# Altium footprint library Components.PcbLib: 154 footprints (part 4 of 10)
Each footprint in its own frame and in the unit in brackets; x right, y up, seen from the top. Pads: shape width x height; smd on the part's side, far side on the other; paste and mask are expansions set on the pad; w line width, h text height; cw(c..) or ccw(c..) is an arc to the next point about the centre after c.
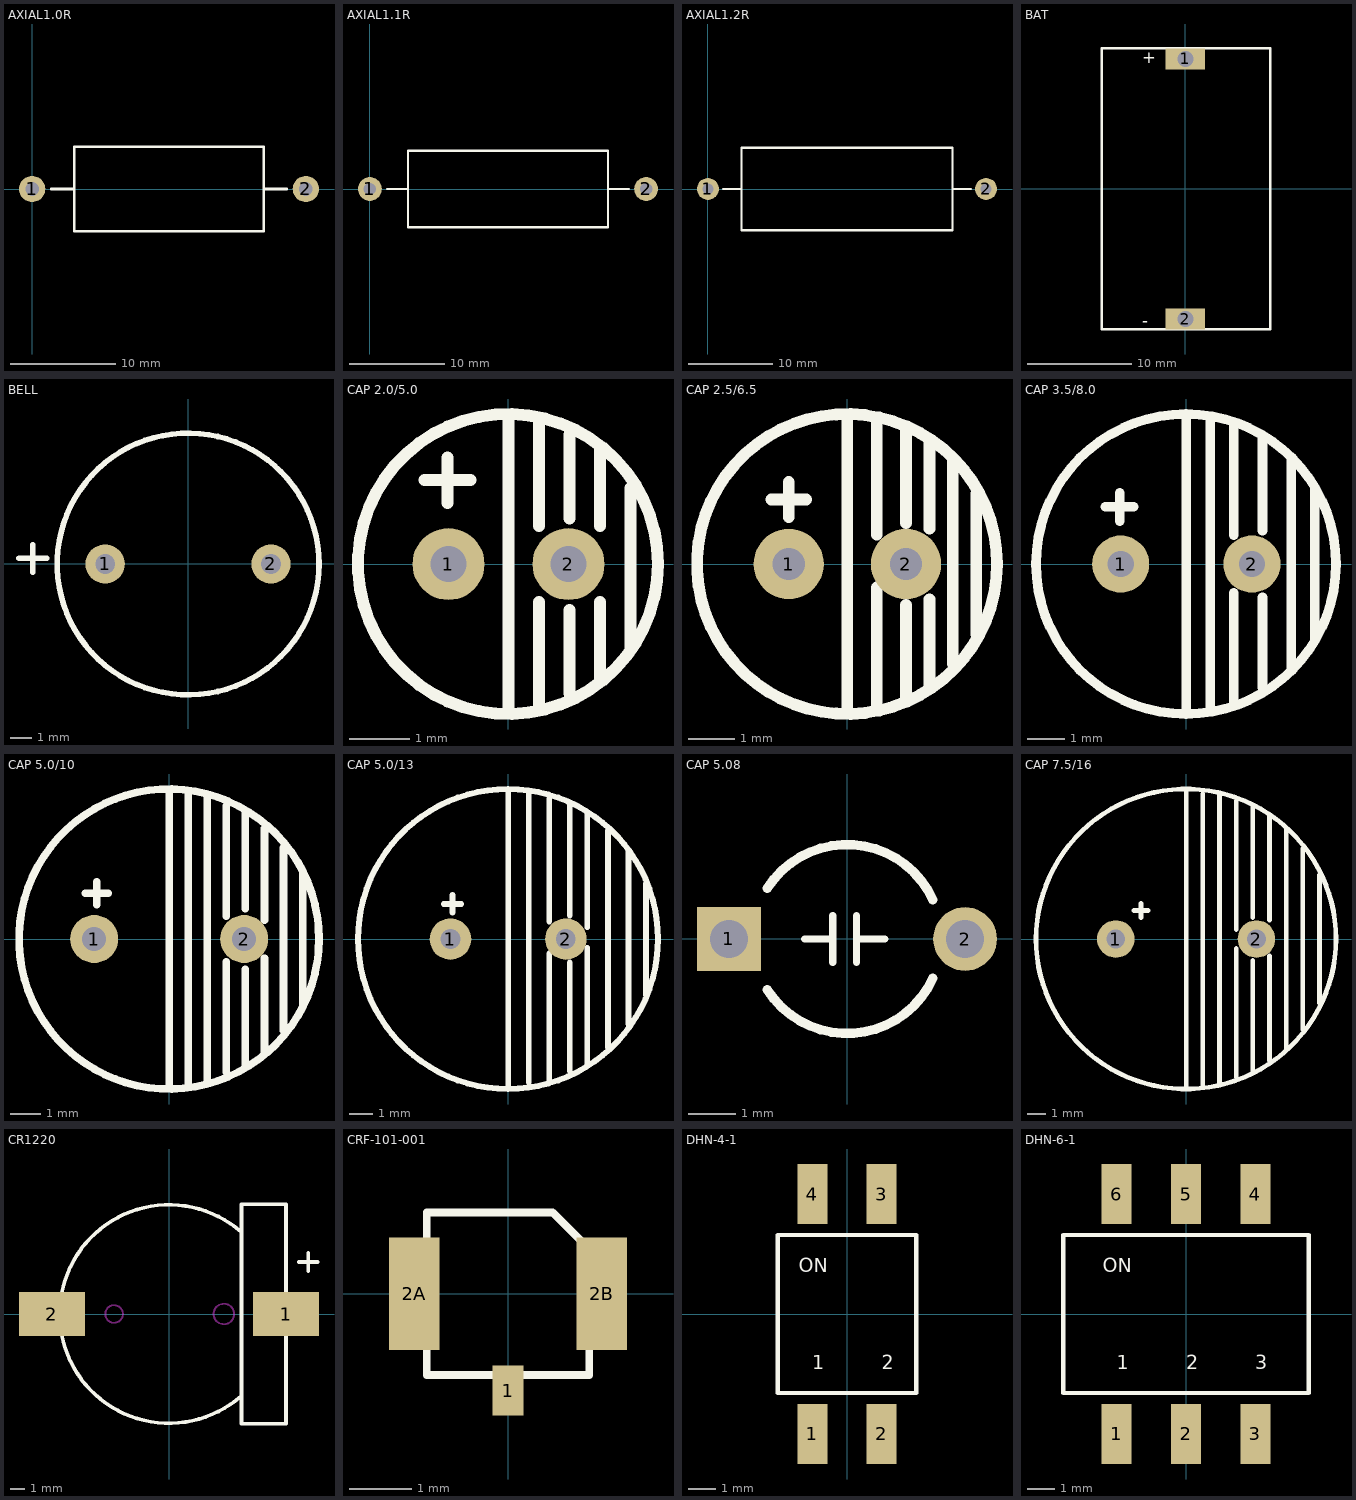
[diagram p3: the footprints below, top view; thin cyan lines are the x and y axes]

## AXIAL1.0R [mm] "3W"
pads (2):
  round 2.5 hole 1.3: 1(0,0.003) 2(26,0.003)
Top Overlay:
  lines w0.254: 1.8,0 4,0 ; 22,0 24.2,0 ; 4,-4 22,-4 22,4 4,4 4,-4

## AXIAL1.1R [mm]
pads (2):
  round 2.5 hole 1.3: 1(0,0.003) 2(29,0.003)
Top Overlay:
  lines w0.254: 1.8,0 4,0 ; 25,0 27.2,0 ; 4,-4 25,-4 25,4 4,4 4,-4

## AXIAL1.2R [mm] "5W"
pads (2):
  round 2.6 hole 1.3: 1(0,0.003) 2(33,0.003)
Top Overlay:
  lines w0.254: 1.8,0 4,0 ; 29,0 31.2,0 ; 4,-4.9 29,-4.9 29,4.9 4,4.9 4,-4.9

## BAT [mm]
pads (2):
  rect 3.81x2 hole 1.524: 1(-0.002,12.426) 2(-0.002,-12.52)
Top Overlay:
  lines w0.254: -8.003,-13.482 -8.003,13.442 8.126,13.442 8.126,-13.482 -8.003,-13.482
  text "+" at -4.128,12.02 h1.14
  text "-" at -4.128,-13.253 h1.14

## BELL [mm] "bell 12*9.5mm"
pads (2):
  round 1.8 hole 0.9: 1(-3.8,0) 2(3.8,0)
Top Overlay:
  circle w0.254: c0,0 r6
  lines w0.254: -7.747,0.254 -6.477,0.254 ; -7.112,-0.381 -7.112,0.889

## CAP 2.0/5.0 [mm] "2.0*5.0mm"
pads (2):
  round 1.2 hole 0.6: 1(-1,0) 2(1,0)
Top Overlay:
  circle w0.2: c-0.008,0.001 r2.5
  lines w0.2: -1.397,1.397 -0.635,1.397 ; -1.016,1.016 -1.016,1.778 ; 0,-2.413 0,2.413 ; 0.508,-2.413 0.508,-0.635 ; 0.508,0.635 0.508,2.413 ; 1.016,-2.159 1.016,-0.762 ; 1.016,0.762 1.016,2.159 ; 1.524,-1.905 1.524,-0.635 ; 1.524,0.635 1.524,1.905 ; 2.032,-1.397 2.032,1.27

## CAP 2.5/6.5 [mil] "2.5*6.5mm"
pads (2):
  round 60 hole 27.56: 1(-50,0) 2(50,0)
Top Overlay:
  circle w10: c-0.31,0.03 r127.95
  lines w10: -65,55 -35,55 ; -50,40 -50,70 ; 0,-125 0,125 ; 25,-125 25,-20 ; 25,25 25,125 ; 50,-115 50,-35 ; 50,35 50,115 ; 70,-105 70,-30 ; 70,30 70,105 ; 90,-85 90,90 ; 110,-60 110,60

## CAP 3.5/8.0 [mm] "3.5*8.0mm"
pads (2):
  round 1.524 hole 0.7: 1(-1.75,0) 2(1.75,0)
Top Overlay:
  circle w0.254: c-0.008,0.001 r4
  lines w0.254: -2.159,1.524 -1.397,1.524 ; -1.778,1.143 -1.778,1.905 ; 0,-3.937 0,3.937 ; 0.635,-3.81 0.635,3.81 ; 1.27,-3.683 1.27,-0.762 ; 1.27,0.762 1.27,3.683 ; 2.032,-3.302 2.032,-0.889 ; 2.032,0.889 2.032,3.429 ; 2.794,-2.794 2.794,2.794 ; 3.429,-2.032 3.429,2.032

## CAP 5.0/10 [mm] "5.0*10mm"
pads (2):
  round 1.6 hole 0.8: 1(-2.5,0) 2(2.5,0)
Top Overlay:
  circle w0.254: c-0.008,0.001 r5
  lines w0.254: -2.794,1.524 -2.032,1.524 ; -2.413,1.143 -2.413,1.905 ; 0,-4.826 0,4.953 ; 0.635,-4.826 0.635,4.826 ; 1.27,-4.699 1.27,4.699 ; 1.905,-4.445 1.905,-0.762 ; 1.905,0.762 1.905,4.445 ; 2.54,-4.191 2.54,-1.016 ; 2.54,1.016 2.54,4.191 ; 3.175,-3.81 3.175,-0.635 ; 3.175,0.635 3.175,3.683 ; 3.81,-3.048 3.81,3.048 ; 4.445,-2.159 4.445,2.159

## CAP 5.0/13 [mm] "5.0*13mm"
pads (2):
  round 1.8 hole 0.85: 1(-2.5,0) 2(2.5,0)
Top Overlay:
  circle w0.254: c-0.008,0.001 r6.5
  lines w0.254: -2.794,1.524 -2.032,1.524 ; -2.413,1.143 -2.413,1.905 ; 0,-6.35 0,6.35 ; 0.889,-6.223 0.889,6.35 ; 1.778,-6.096 1.778,-0.635 ; 1.778,0.762 1.778,6.096 ; 2.667,-5.715 2.667,-1.016 ; 2.667,1.016 2.667,5.842 ; 3.429,-5.461 3.429,-0.381 ; 3.429,0.508 3.429,5.461 ; 4.318,-4.699 4.318,4.699 ; 5.207,-3.683 5.207,3.81 ; 5.969,-2.413 5.969,2.413

## CAP 5.08 [mm] "5.0*10mm"
pads (2):
  rect 1.35x1.35 hole 0.8: 1(-2.5,0)
  round 1.35 hole 0.8: 2(2.5,0)
Top Overlay:
  lines w0.152: -0.9,0 -0.3,0 ; -0.3,-0.5 -0.3,0.5 ; 0.2,-0.5 0.2,0.5 ; 0.2,0 0.8,0
  lines w0.2: -1.687,-1.075 ccw(c0,0) 1.819,-0.832 ; -1.687,1.075 cw(c0,0) 1.819,0.832

## CAP 7.5/16 [mm] "7.5*16mm"
pads (2):
  round 2 hole 1: 1(-3.75,0) 2(3.75,0)
Top Overlay:
  circle w0.254: c-0.008,0.001 r8
  lines w0.254: -2.794,1.524 -2.032,1.524 ; -2.413,1.143 -2.413,1.905 ; 0,-7.874 0,7.874 ; 0.889,-7.874 0.889,7.747 ; 1.778,-7.747 1.778,7.747 ; 2.667,-7.366 2.667,-0.508 ; 2.667,0.508 2.667,7.366 ; 3.556,-7.112 3.556,-1.143 ; 3.556,1.143 3.556,7.112 ; 4.445,-6.477 4.445,-0.889 ; 4.445,1.016 4.445,6.604 ; 5.334,-5.842 5.334,5.842 ; 6.223,-4.826 6.223,4.826 ; 7.112,-3.429 7.112,3.429

## CR1220 [mm] "Battery Holder CR1220 3V"
pads (2):
  rect 4.5x3 smd: 1(8,0) 2(-8,0)
Top Overlay:
  lines w0.254: 4.953,-7.493 4.953,7.5 ; 4.953,-5.588 cw(c0,0) 4.953,5.588 ; 5,-7.5 8,-7.5 ; 5.08,7.5 5,7.5 8,7.5 ; 8.001,-7.5 8.001,7.5 ; 8.89,3.556 10.16,3.556 ; 9.525,2.921 9.525,4.191
Keep-Out Layer:
  circle w0.127: c3.75,0 r0.7
  circle w0.127: c-3.75,0 r0.6

## CRF-101-001 [mm]
pads (3):
  rect 0.5x0.8 smd: 1(0,-1.554)
  rect 0.8x1.8 smd: 2A(-1.5,0) 2B(1.5,0)
Top Overlay:
  lines w0.127: -1.3,-1.3 1.3,-1.3 1.3,0.508 1.3,0.711 0.711,1.3 0.508,1.3 -1.3,1.3 -1.3,-1.3

## DHN-4-1 [mm] "2.54mm"
pads (4):
  rect 1.1x2.2 smd: 1(-1.27,-4.4) 2(1.27,-4.4) 3(1.27,4.4) 4(-1.27,4.4)
Top Overlay:
  lines w0.152: -2.54,-2.9 2.54,-2.9 2.54,2.9 -2.54,2.9 -2.54,-2.9
  text "ON" at -1.778,1.524 h0.51
  text "1" at -1.27,-2.032 h0.51
  text "2" at 1.27,-2.032 h0.51

## DHN-6-1 [mm] "2.54mm"
pads (6):
  rect 1.1x2.2 smd: 1(-2.54,-4.4) 2(0,-4.4) 3(2.54,-4.4) 4(2.54,4.4) 5(0,4.4) 6(-2.54,4.4)
Top Overlay:
  lines w0.152: -4.5,-2.9 4.5,-2.9 4.5,2.9 -4.5,2.9 -4.5,-2.9
  text "ON" at -3.048,1.524 h0.51
  text "1" at -2.54,-2.032 h0.51
  text "2" at 0,-2.032 h0.51
  text "3" at 2.54,-2.032 h0.51